# Altium schematic symbol library Memory.SchLib: 4 symbols
Pins are listed as number, name and electrical type; pins without a type are passive.

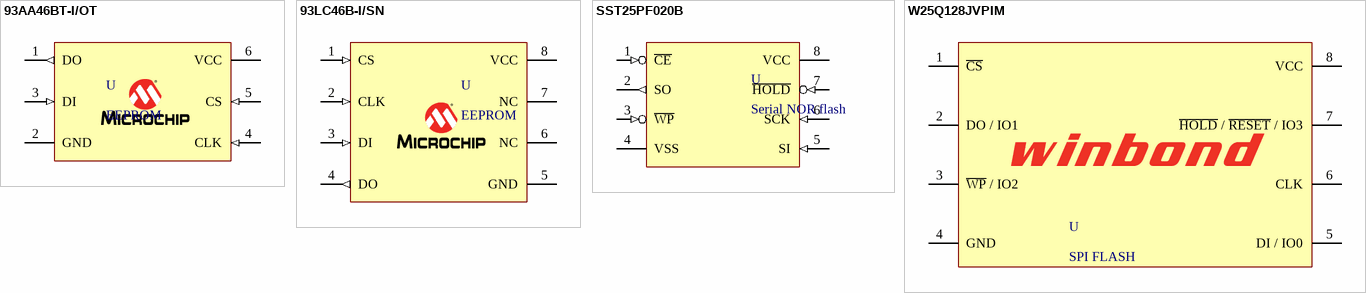
[diagram p0: symbols 93AA46BT-I/OT to W25Q128JVPIM]

## 93AA46BT-I/OT
designator U, comment EEPROM
EEPROM serial 1k 1.8-5.5V 16-bit; Supplier Part Number 1: 1331410; Supplier 1: Farnell
footprint 93AA46BT-I/OT (SOT23, 6-Leads, Body 2.90x2.70mm, Pitch 0.95mm, IPC Medium Density)
pins: 1 DO (out), 2 GND (power), 3 DI (in), 4 CLK (in), 5 CS (in), 6 VCC (power)

## 93LC46B-I/SN
designator U, comment EEPROM
EEPROM serial 1k 2.5-5.5V 16-bit; SUpplier Part Number 1: 9758232; Supplier 1: Farnell
footprint 93LC46B-I/SN (SOIC, 8-Leads, Body 4.90x3.90mm, Pitch 1.27mm, IPC Low Density)
pins: 1 CS (in), 2 CLK (in), 3 DI (in), 4 DO (out), 5 GND (power), 6 NC, 7 NC, 8 VCC (power)

## SST25PF020B
designator U, comment Serial NOR flash
Flash Serial NOR 2Mbit 256K x 8bit; Supplier Part Number 1: 2295955; Supplier 1: Farnell
footprint SST25PF020B
pins: 1 ~{CE} (in), 2 SO (out), 3 ~{WP} (in), 4 VSS (power), 5 SI (in), 6 SCK (in), 7 ~{HOLD} (in), 8 VCC (power)

## W25Q128JVPIM
designator U, comment SPI FLASH
Flash serial NOR 128 Mbit 16M x 8bit; Supplier Part Number 1: W25Q128JVPIMTR-ND; Supplier 1: Digi-Key
footprint W25Q128JVPIM (SON, 8-Leads, Body 5.00x6.00mm, Pitch 1.27mm, Thermal Pad 4.30x3.40mm, IPC Medium Density)
pins: 1 ~{CS}, 2 DO / IO1, 3 ~{WP} / IO2, 4 GND, 5 DI / IO0, 6 CLK, 7 ~{HOLD} / ~{RESET} / IO3, 8 VCC